# Altium schematic symbol library DESIGN1_Library.SchLib: 9 symbols
Pins are listed as number, name and electrical type; pins without a type are passive.

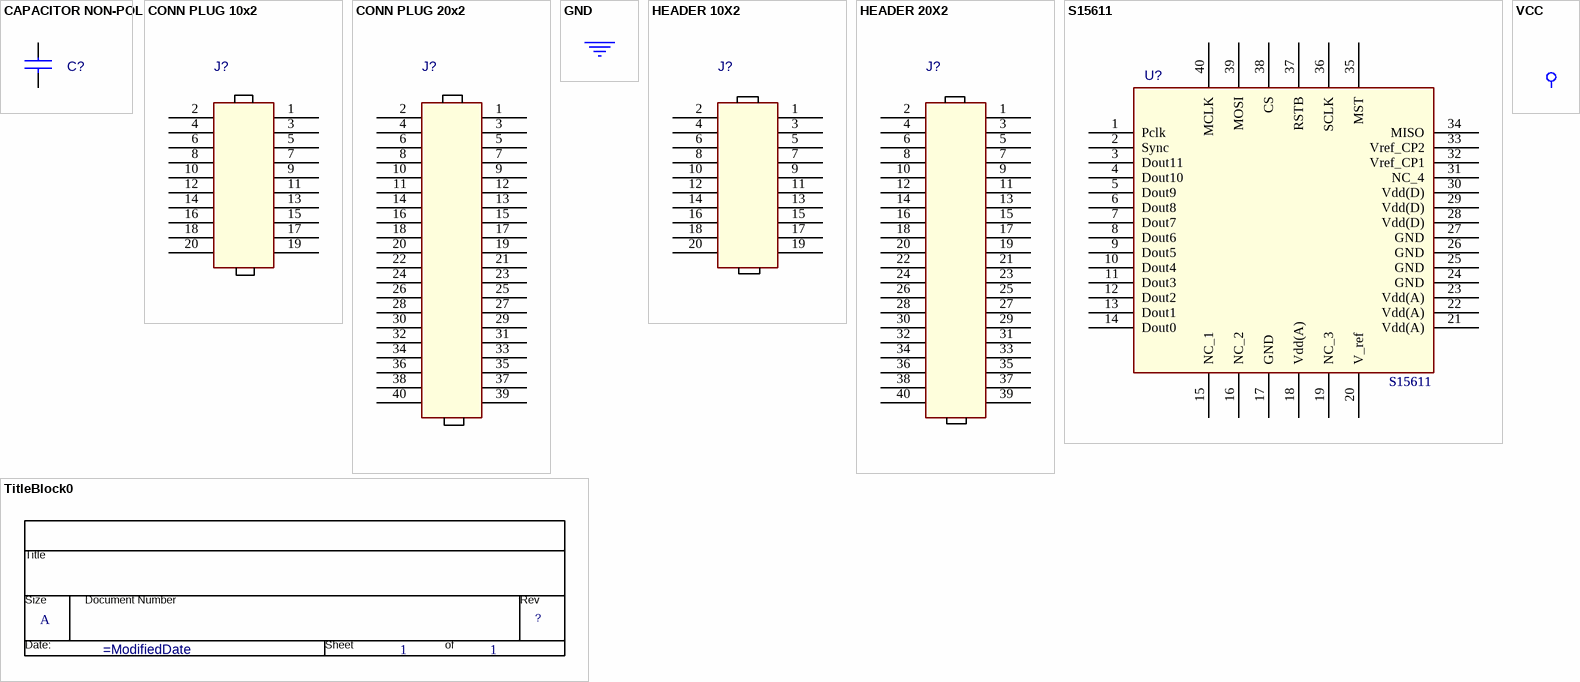
[diagram p0: symbols CAPACITOR NON-POL to VCC]

## CAPACITOR NON-POL
designator C?
pins: 1, 2

## CONN PLUG 10x2
designator J?
pins: 1 11, 2 1, 3 12, 4 2, 5 13, 6 3, 7 14, 8 4, 9 15, 10 5, 11 16, 12 6, 13 17, 14 7, 15 18, 16 8, 17 19, 18 9, 19 20, 20 10

## CONN PLUG 20x2
designator J?
pins: 1 21, 2 1, 3 22, 4 2, 5 23, 6 3, 7 24, 8 4, 9 25, 10 5, 11 6, 12 26, 13 27, 14 7, 15 28, 16 8, 17 29, 18 9, 19 30, 20 10, 21 31, 22 11, 23 32, 24 12, 25 33, 26 13, 27 34, 28 14, 29 35, 30 15, 31 36, 32 16, 33 37, 34 17, 35 38, 36 18, 37 39, 38 19, 39 40, 40 20

## GND
designator *  (value not drawn)  (graphical)
pins: $PIN0 (power) hidden to $PIN0

## HEADER 10X2
designator J?
pins: 1, 2, 3, 4, 5, 6, 7, 8, 9, 10, 11, 12, 13, 14, 15, 16, 17, 18, 19, 20

## HEADER 20X2
designator J?
pins: 1, 2, 3, 4, 5, 6, 7, 8, 9, 10, 11, 12, 13, 14, 15, 16, 17, 18, 19, 20, 21, 22, 23, 24, 25, 26, 27, 28, 29, 30, 31, 32, 33, 34, 35, 36, 37, 38, 39, 40

## S15611
designator U?
Value: S15611
footprint S15611_FP
pins: 1 Pclk, 2 Sync, 3 Dout11, 4 Dout10, 5 Dout9, 6 Dout8, 7 Dout7, 8 Dout6, 9 Dout5, 10 Dout4, 11 Dout3, 12 Dout2, 13 Dout1, 14 Dout0, 15 NC_1, 16 NC_2, 17 GND (power), 18 Vdd(A) (power), 19 NC_3, 20 V_ref, 21 Vdd(A) (power), 22 Vdd(A) (power), 23 Vdd(A) (power), 24 GND (power), 25 GND (power), 26 GND (power), 27 GND (power), 28 Vdd(D) (power), 29 Vdd(D) (power), 30 Vdd(D) (power), 31 NC_4, 32 Vref_CP1, 33 Vref_CP2, 34 MISO, 35 MST, 36 SCLK, 37 RSTB, 38 CS, 39 MOSI, 40 MCLK

## TitleBlock0
designator *  Page Count: 1  Page Size: A  (hidden comment: *)  (graphical)
Page Number: 1; RevCode: ?; Page Create Date: March  8, 1995; Page Modify Date: =ModifiedDate
text: Title; Size; Document Number; Rev; Date:; Sheet; of

## VCC
designator *  (value not drawn)  (graphical)
pins: $PIN0 (power) hidden to $PIN0